# EAGLE library part BOURNS-CHIP-RESISTOR-ARRAY-8 (library zenpirate)
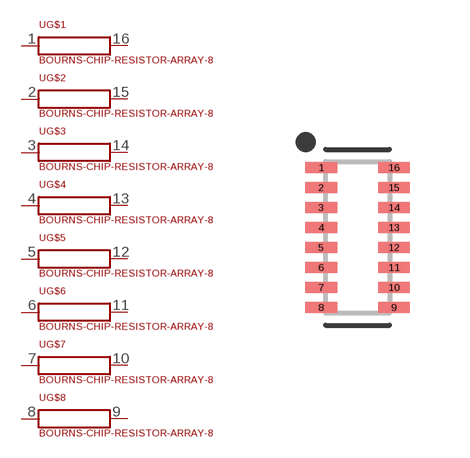
[diagram p6: symbol with the pads of RESCAXE50P380X160X50-16; footprint RESCAXE50P380X160X50-16]

Designator prefix -; gates G$1=RESISTOR G$2=RESISTOR G$3=RESISTOR G$4=RESISTOR G$5=RESISTOR G$6=RESISTOR G$7=RESISTOR G$8=RESISTOR

## BOURNS-CHIP-RESISTOR-ARRAY-82406-RESISTOR-ARRAY  [RESCAXE50P380X160X50-16]
1  G$1:P$1
2  G$2:P$1
3  G$3:P$1
4  G$4:P$1
5  G$5:P$1
6  G$6:P$1
7  G$7:P$1
8  G$8:P$1
9  G$8:P$2
10  G$7:P$2
11  G$6:P$2
12  G$5:P$2
13  G$4:P$2
14  G$3:P$2
15  G$2:P$2
16  G$1:P$2

## Footprint RESCAXE50P380X160X50-16 (pad centres in mm)
16-CHIPARRAY 2-SIDE CONVEX, 0.5 mm pitch, 3.8 X 1.6 X 0.5 mm body 16-pin CHIPARRAY 2-SIDE CONVEX package with 0.5 mm pitch with body size 3.8 X 1.6 X 0.5 mm
smd 0.792 x 0.272: 1 -0.91,1.75; 2 -0.91,1.25; 3 -0.91,0.75; 4 -0.91,0.25; 5 -0.91,-0.25; 6 -0.91,-0.75; 7 -0.91,-1.25; 8 -0.91,-1.75; 9 0.91,-1.75; 10 0.91,-1.25; 11 0.91,-0.75; 12 0.91,-0.25; 13 0.91,0.25; 14 0.91,0.75; 15 0.91,1.25; 16 0.91,1.75